# Altium footprint library OPA2388.PcbLib: 3 footprints
Each footprint in its own frame and in the unit in brackets; x right, y up, seen from the top. Pads: shape width x height; smd on the part's side, far side on the other; paste and mask are expansions set on the pad; w line width, h text height; cw(c..) or ccw(c..) is an arc to the next point about the centre after c.
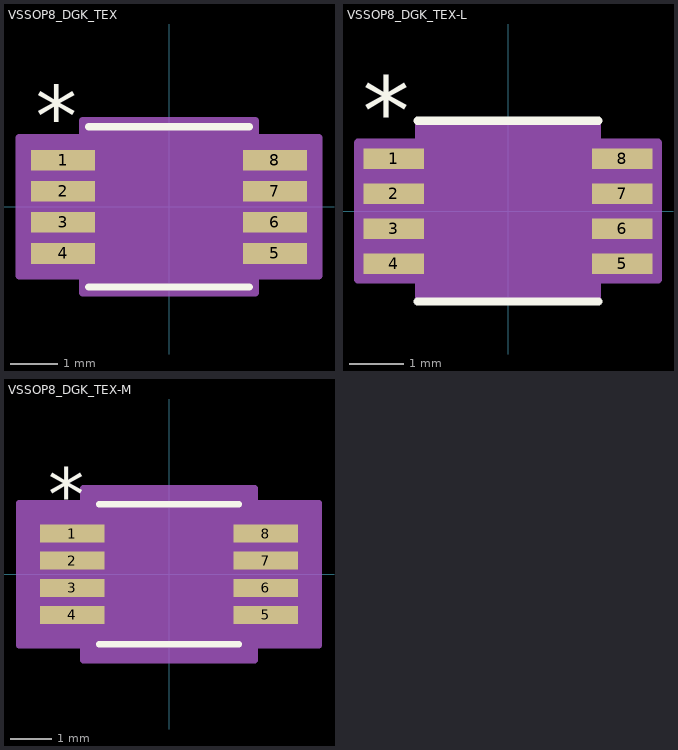
[diagram p0: the footprints below, top view; thin cyan lines are the x and y axes]

## VSSOP8_DGK_TEX [mil]
pads (8):
  rect 52.5x17 smd paste+0 mask+0: 1(-87.25,38.39) 2(-87.25,12.8) 3(-87.25,-12.8) 4(-87.25,-38.39) 5(87.25,-38.39) 6(87.25,-12.8) 7(87.25,12.8) 8(87.25,38.39)
Top Overlay:
  lines w6: -66,-66 66,-66 ; -66,66 66,66
  text ".Designator" at -137.5,-25 h50
  text "*" at -109.75,50.39 h50
Mechanical 13:
  lines w1: -12,61 ccw(c0,61) 12,61 ; -99.5,-45.89 -99.5,-30.89 -61,-30.89 -61,-45.89 -99.5,-45.89 ; -99.5,-20.3 -99.5,-5.3 -61,-5.3 -61,-20.3 -99.5,-20.3 ; -99.5,5.3 -99.5,20.3 -61,20.3 -61,5.3 -99.5,5.3 ; -99.5,30.89 -99.5,45.89 -61,45.89 -61,30.89 -99.5,30.89 ; -61,-61 61,-61 61,61 -61,61 -61,-61 ; 61,-45.89 61,-30.89 99.5,-30.89 99.5,-45.89 61,-45.89 ; 61,-20.3 61,-5.3 99.5,-5.3 99.5,-20.3 61,-20.3 ; 61,5.3 61,20.3 99.5,20.3 99.5,5.3 61,5.3 ; 61,30.89 61,45.89 99.5,45.89 99.5,30.89 61,30.89
  text "*" at -58.5,8 h50
  text ".Designator" at -137.5,-25 h50
Mechanical 15:
  region: -71,-56.89 -123.5,-56.89 -123.5,56.89 -71,56.89 -71,71 71,71 71,56.89 123.5,56.89 123.5,-56.89 71,-56.89 71,-71 -71,-71
  lines w6: -123.5,-56.89 -123.5,56.89 -71,56.89 -71,71 71,71 71,56.89 123.5,56.89 123.5,-56.89 71,-56.89 71,-71 -71,-71 -71,-56.89 -123.5,-56.89
3D body "VSSOP8_DGK_TEX.step": height 43.11, standoff 0, extent -99.49,-60.98 99.49,60.98

## VSSOP8_DGK_TEX-L [mil]
pads (8):
  rect 44x15 smd paste+0 mask+0: 1(-83.5,38.39) 2(-83.5,12.8) 3(-83.5,-12.8) 4(-83.5,-38.39) 5(83.5,-38.39) 6(83.5,-12.8) 7(83.5,12.8) 8(83.5,38.39)
Top Overlay:
  lines w6: -66,-66 66,-66 ; -66,66 66,66
  text ".Designator" at -137.5,-25 h50
  text "*" at -106,48.39 h50
Mechanical 13:
  lines w1: -12,61 ccw(c0,61) 12,61 ; -99.5,-45.89 -99.5,-30.89 -61,-30.89 -61,-45.89 -99.5,-45.89 ; -99.5,-20.3 -99.5,-5.3 -61,-5.3 -61,-20.3 -99.5,-20.3 ; -99.5,5.3 -99.5,20.3 -61,20.3 -61,5.3 -99.5,5.3 ; -99.5,30.89 -99.5,45.89 -61,45.89 -61,30.89 -99.5,30.89 ; -61,-61 61,-61 61,61 -61,61 -61,-61 ; 61,-45.89 61,-30.89 99.5,-30.89 99.5,-45.89 61,-45.89 ; 61,-20.3 61,-5.3 99.5,-5.3 99.5,-20.3 61,-20.3 ; 61,5.3 61,20.3 99.5,20.3 99.5,5.3 61,5.3 ; 61,30.89 61,45.89 99.5,45.89 99.5,30.89 61,30.89
  text "*" at -58.5,8 h50
  text ".Designator" at -137.5,-25 h50
Mechanical 15:
  region: -65,-49.89 -109.5,-49.89 -109.5,49.89 -65,49.89 -65,65 65,65 65,49.89 109.5,49.89 109.5,-49.89 65,-49.89 65,-65 -65,-65
  lines w6: -109.5,-49.89 -109.5,49.89 -65,49.89 -65,65 65,65 65,49.89 109.5,49.89 109.5,-49.89 65,-49.89 65,-65 -65,-65 -65,-49.89 -109.5,-49.89
3D body "VSSOP8_DGK_TEX.step": height 43.11, standoff 0, extent -99.49,-60.98 99.49,60.98

## VSSOP8_DGK_TEX-M [mil]
pads (8):
  rect 60.5x17 smd paste+0 mask+0: 1(-91.25,38.39) 2(-91.25,12.8) 3(-91.25,-12.8) 4(-91.25,-38.39) 5(91.25,-38.39) 6(91.25,-12.8) 7(91.25,12.8) 8(91.25,38.39)
Top Overlay:
  lines w6: -66,-66 66,-66 ; -66,66 66,66
  text ".Designator" at -137.5,-25 h50
  text "*" at -113.75,50.39 h50
Mechanical 13:
  lines w1: -12,61 ccw(c0,61) 12,61 ; -99.5,-45.89 -99.5,-30.89 -61,-30.89 -61,-45.89 -99.5,-45.89 ; -99.5,-20.3 -99.5,-5.3 -61,-5.3 -61,-20.3 -99.5,-20.3 ; -99.5,5.3 -99.5,20.3 -61,20.3 -61,5.3 -99.5,5.3 ; -99.5,30.89 -99.5,45.89 -61,45.89 -61,30.89 -99.5,30.89 ; -61,-61 61,-61 61,61 -61,61 -61,-61 ; 61,-45.89 61,-30.89 99.5,-30.89 99.5,-45.89 61,-45.89 ; 61,-20.3 61,-5.3 99.5,-5.3 99.5,-20.3 61,-20.3 ; 61,5.3 61,20.3 99.5,20.3 99.5,5.3 61,5.3 ; 61,30.89 61,45.89 99.5,45.89 99.5,30.89 61,30.89
  text "*" at -58.5,8 h50
  text ".Designator" at -137.5,-25 h50
Mechanical 15:
  region: -81,-66.89 -141.5,-66.89 -141.5,66.89 -81,66.89 -81,81 81,81 81,66.89 141.5,66.89 141.5,-66.89 81,-66.89 81,-81 -81,-81
  lines w6: -141.5,-66.89 -141.5,66.89 -81,66.89 -81,81 81,81 81,66.89 141.5,66.89 141.5,-66.89 81,-66.89 81,-81 -81,-81 -81,-66.89 -141.5,-66.89
3D body "VSSOP8_DGK_TEX.step": height 43.11, standoff 0, extent -99.49,-60.98 99.49,60.98